# Altium footprint library 放电管.PcbLib: 1 footprints
Each footprint in its own frame and in the unit in brackets; x right, y up, seen from the top. Pads: shape width x height; smd on the part's side, far side on the other; paste and mask are expansions set on the pad; w line width, h text height; cw(c..) or ccw(c..) is an arc to the next point about the centre after c.
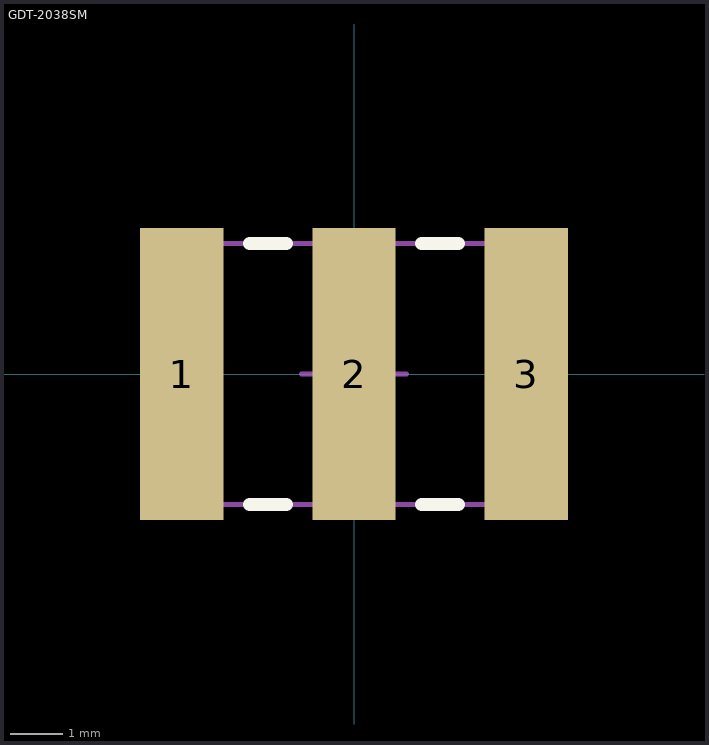
[diagram p0: the footprint, top view; thin cyan lines are the x and y axes]

## GDT-2038SM [mm] "GDT 2038 贴片放电保护管"
height 5
pads (3):
  rect 1.6x5.6 smd: 1(-3.3,0) 2(0,0) 3(3.3,0)
Top Overlay:
  lines w0.254: -2,-2.5 -1.3,-2.5 ; -2,2.5 -1.3,2.5 ; 1.3,-2.5 2,-2.5 ; 1.3,2.5 2,2.5
Mechanical 13:
  lines w0.05: -3.75,-2.489 3.75,-2.489 3.75,2.511 -3.75,2.511 -3.75,-2.489
Mechanical 15:
  lines w0.1: -1,0 1,0 ; 0,-1 0,1 ; -3.75,-2.5 -3.75,2.5 3.75,2.5 3.75,-2.5 -3.75,-2.5
3D body: height 5, standoff 0, extent -3.75,-2.489 3.75,2.511